# EAGLE library part TMP75C (library nio)
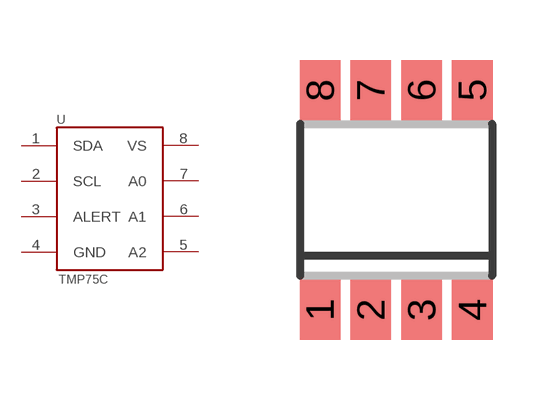
[diagram p0: symbol with the pads of SOIC8; footprint SOIC8]

Designator prefix -

## TMP75CSOIC8  [SOIC8]
1  SDA
2  SCL
3  ALERT
4  GND
5  A2
6  A1
7  A0
8  VS

## Footprint SOIC8 (pad centres in mm)
smd 1.016 x 1.5: 1 -1.905,-2.75; 2 -0.635,-2.75; 3 0.635,-2.75; 4 1.905,-2.75; 5 1.905,2.75; 6 0.635,2.75; 7 -0.635,2.75; 8 -1.905,2.75